# Altium integrated library SMTU2032-1.IntLib: 1 symbol
Pins are listed as number, name and electrical type; pins without a type are passive.

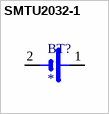
[diagram p0: symbol SMTU2032-1]

## SMTU2032-1
designator BT?
Battery Renata Battery Holder; MP: SMTU2032-1; SnapEDA_Link: https://www.snapeda.com/parts/SMTU2032-1/Renata/view-part/?ref=snap; Package: None; Value: *; MF: Renata; Check_prices: https://www.snapeda.com/parts/SMTU2032-1/Renata/view-part/?ref=eda
footprint RENATA_SMTU2032-1
pins: 1 POS, 2 NEG